# Altium schematic symbol library Components - 08.09.24 - 21.53.SchLib: 1 symbol
Pins are listed as number, name and electrical type; pins without a type are passive.

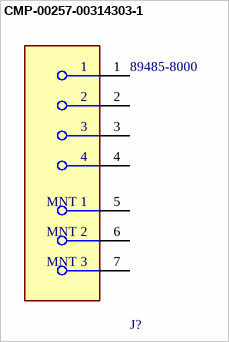
[diagram p0: symbol CMP-00257-00314303-1]

## CMP-00257-00314303-1
designator J?, comment 89485-8000
89485-8000 Usb Connector, 4 Contact(S), Female, Right Angle, Solder Terminal, Locking, Receptacle; NexarPartId: 314303; Manufacturer Lifecycle Status: ACTIVE; Connector Type: Receptacle, USB; Number of Circuits: 4; Max Current Rating: 1A; USB Standard: USB 2.0; Voltage Rating (AC): 750V; Number of Ports: 1; Insulation Resistance: 1GΩ; Current Rating: 500mA; Pitch: 1.4mm; Plating: Tin; Min Operating Temperature: 0°C; Gender: Female; Lifecycle Status: Production; Length: 7.5mm; Termination: Solder; Contact Material: Bronze, Gold, Nickel; Orientation: Right Angle; Number of Contacts: 4; REACH SVHC: Unknown; Number of Positions: 4; Lead Pitch: 2.5mm; Housing Material: Nylon; Number of Rows: 1; Max Operating Temperature: 40°C; Country of Origin: MX; Number of Pins: 4; Color: Black; Height: 14.7mm; Max Voltage Rating (AC): 750V; RoHS: Compliant; Number of Terminals: 4; Voltage Rating: 750V; Housing Color: Black; Mount: Through Hole; Radiation Hardening: No; Flammability Rating: UL94 V-0; Depth: 14mm; Lead Free: Lead Free; Contact Plating: Gold; Schedule B: 8536695050|8536695050|8536695050|8536695050|8536695050
footprint PCBComponent_1
pins: 1, 2, 3, 4, 5 MNT 1, 6 MNT 2, 7 MNT 3